# Altium footprint library F407_MB.PcbLib: 57 footprints (part 4 of 4)
Each footprint in its own frame and in the unit in brackets; x right, y up, seen from the top. Pads: shape width x height; smd on the part's side, far side on the other; paste and mask are expansions set on the pad; w line width, h text height; cw(c..) or ccw(c..) is an arc to the next point about the centre after c.
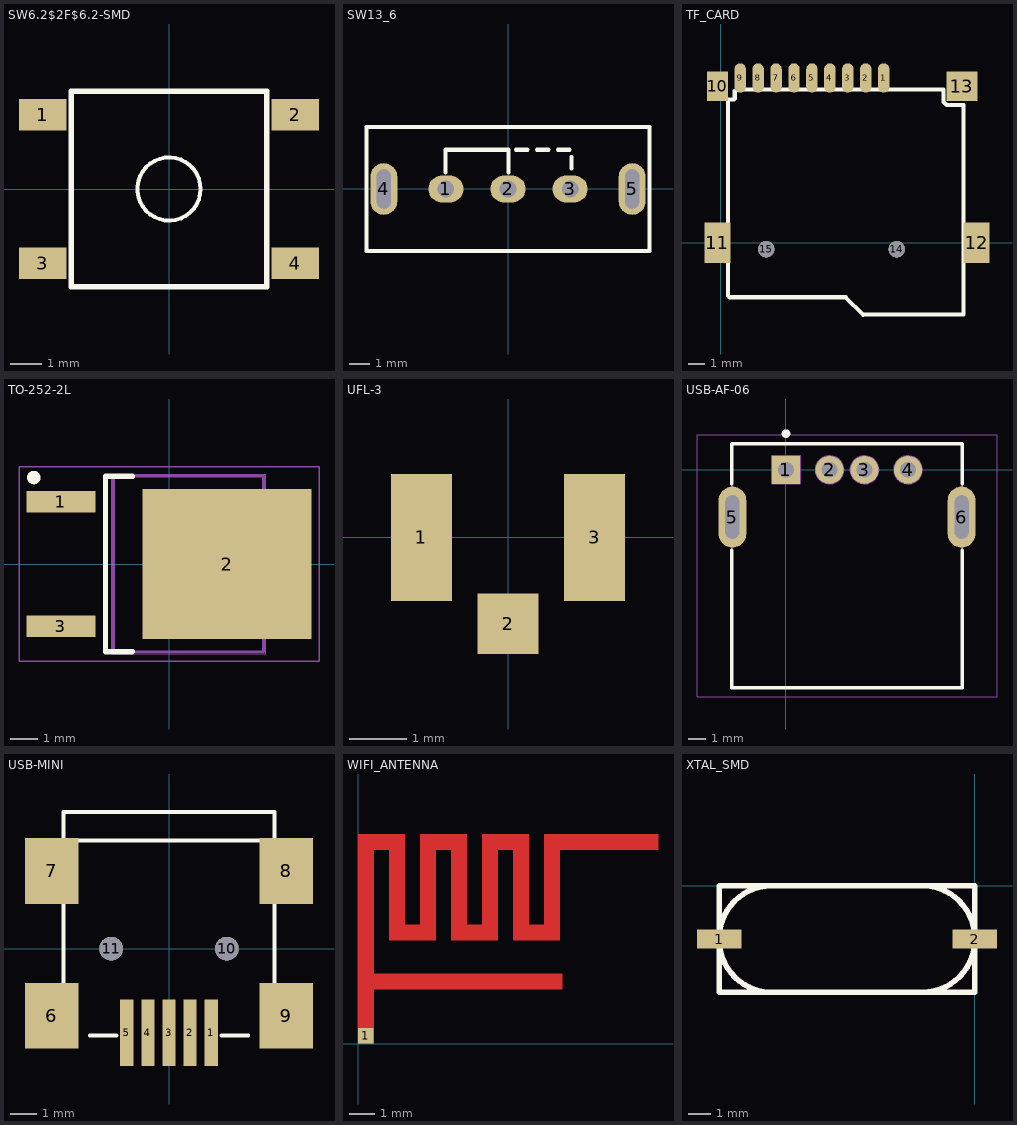
[diagram p3: the footprints below, top view; thin cyan lines are the x and y axes]

## SW6.2$2F$6.2-SMD [mm]
pads (4):
  rect 1.5x1 smd: 1(-4,2.35) 2(4,2.35) 3(-4,-2.35) 4(4,-2.35)
Top Overlay:
  circle w0.127: c0,0 r1
  lines w0.178: -3.1,-3.1 -3.1,3.1 3.1,3.1 3.1,-3.1 -3.1,-3.1

## SW13_6 [mm]
pads (5):
  oval 1.7x1.3 hole 0.8: 1(-3,0) 2(0,0) 3(3,0)
  oval 1.3x2.5 hole 0.686 slot 1.905 at 90 deg: 4(-6,0) 5(6,0)
Top Overlay:
  lines w0.203: -3.023,0.8 -3.023,1.9 0.025,1.9 0.025,0.8 ; 0.381,1.9 0.94,1.9 ; 1.397,1.9 1.956,1.9 ; 2.413,1.9 2.972,1.9 ; 3.073,0.984 3.073,1.543 ; -6.833,-3 6.833,-3 6.833,3 -6.833,3 -6.833,-3

## TF_CARD [mm]
pads (15):
  oval 0.7x1.8 smd: 1(10,10.1) 2(8.9,10.1) 3(7.8,10.1) 4(6.7,10.1) 5(5.6,10.1) 6(4.5,10.1) 7(3.4,10.1) 8(2.3,10.1) 9(1.2,10.1)
  rect 1.3x1.8 smd: 10(-0.2,9.6)
  rect 1.6x2.5 smd: 11(-0.2,0) 12(15.7,0)
  rect 1.9x1.8 smd: 13(14.8,9.6)
  round 1 hole 1: 14(10.8,-0.4) 15(2.8,-0.4)
Top Overlay:
  lines w0.254: 0.406,8.788 0.813,8.788 0.864,8.839 0.864,9.296 0.965,9.398 13.665,9.398 13.665,8.636 13.868,8.433 14.884,8.433 14.884,-4.4 8.738,-4.42 7.671,-3.353 0.559,-3.353 0.457,-3.251 0.457,8.738 0.406,8.788

## TO-252-2L [mm]
pads (3):
  rect 2.55x0.8 smd: 1(-4,2.3) 3(-4,-2.3)
  rect 6.25x5.55 smd: 2(2.15,0)
Top Overlay:
  circle w0.25: c-5,3.2 r0.125
  lines w0.2: -1.35,-3.25 -2.35,-3.25 -2.35,3.25 -1.35,3.25
Top Paste:
  region: -0.25,-2.06 1.79,-2.06 1.79,-0.36 -0.25,-0.36
  region: 2.51,-2.06 4.55,-2.06 4.55,-0.36 2.51,-0.36
  region: -0.25,0.36 1.79,0.36 1.79,2.06 -0.25,2.06
  region: 2.51,0.36 4.55,0.36 4.55,2.06 2.51,2.06
Mechanical 1:
  lines w0.1: 3.5,-2.668 3.946,-2.668 4.85,-1.666 4.85,1.666 3.946,2.668 3.5,2.668 ; -2.05,-3.25 3.5,-3.25 3.5,3.25 -2.05,3.25 -2.05,-3.25
  text "UP1" at -0.852,-0.45 h0.75
Mechanical 16:
  circle w0.05: c0,0 r0.35
  lines w0.001: -2.125,-3.325 3.575,-3.325 3.575,3.325 -2.125,3.325 -2.125,-3.325
  lines w0.05: -0.5,0 0.5,0 ; 0,-0.5 0,0.5 ; -5.55,-3.6 5.55,-3.6 5.55,3.6 -5.55,3.6 -5.55,-3.6

## UFL-3 [mm]
pads (3):
  rect 1.05x2.2 smd: 1(-1.5,0) 3(1.5,0)
  rect 1.05x1.05 smd: 2(0,-1.5)

## USB-AF-06 [mm]
pads (6):
  rect 1.6x1.6 / inner round 1.6 / far side rect 1.6x1.6 hole 0.9: 1(0,0)
  round 1.6 hole 0.9: 2(2.5,0) 3(4.5,0) 4(7,0)
  oval 1.6x3.5 hole 0.8 slot 2.5 at 90 deg: 5(-3.07,-2.71) 6(10.07,-2.71)
Top Overlay:
  circle w0.25: c0,2.075 r0.125
  lines w0.2: -3.1,-4.6 -3.1,-12.5 10.1,-12.5 10.1,-4.6 ; -3.1,-0.8 -3.1,1.5 10.1,1.5 10.1,-0.8
Mechanical 1:
  circle w0.1: c2.5,0 r0.8
  circle w0.1: c4.5,0 r0.8
  circle w0.1: c7,0 r0.8
  lines w0.1: -3.1,-12.5 10.1,-12.5 10.1,1.5 -3.1,1.5 -3.1,-12.5 ; -0.8,-0.8 -0.8,0.8 0.8,0.8 0.8,-0.8 -0.8,-0.8
Mechanical 16:
  circle w0.05: c0,0 r0.35
  lines w0.001: -3.1,-12.5 10.1,-12.5 10.1,1.5 -3.1,1.5 -3.1,-12.5
  lines w0.05: -0.5,0 0.5,0 ; 0,-0.5 0,0.5 ; -5.1,-13 12.1,-13 12.1,2 -5.1,2 -5.1,-13

## USB-MINI [mm]
pads (11):
  rect 0.508x2.54 smd: 1(1.6,-3.2) 2(0.8,-3.2) 3(0,-3.2) 4(-0.8,-3.2) 5(-1.6,-3.2)
  rect 2.032x2.5 smd: 6(-4.45,-2.55) 7(-4.45,2.95) 8(4.45,2.95) 9(4.45,-2.55)
  round 0.9 hole 0.9 unplated: 10(2.2,0) 11(-2.2,0)
Top Overlay:
  lines w0.152: -4,-1.5 -4,1.9 ; -4,4 -4,5.2 4,5.2 4,4 ; -4,4.1 4,4.1 ; -3,-3.3 -2,-3.3 ; 2,-3.3 3,-3.3 ; 4,-1.5 4,1.9

## WIFI_ANTENNA [mm]
pads (1):
  rect 0.6x0.6 smd: 1(0.3,0.3)
Top Layer:
  region: 0,8.1 0,0 0.6,0 0.6,2.1 7.9,2.1 7.9,2.7 0.6,2.7 0.6,7.5 1.2,7.5 1.2,4 3,4 3,7.5 3.6,7.5 3.6,4 5.4,4 5.4,7.5 6,7.5 6,4 7.8,4 7.8,7.5 11.6,7.5 11.6,8.1 7.2,8.1 7.2,4.6 6.6,4.6 6.6,8.1 4.8,8.1 4.8,4.6 4.2,4.6 4.2,8.1 2.4,8.1 2.4,4.6 1.8,4.6 1.8,8.1
Top Solder:
  region: 0,8.1 0,0 0.6,0 0.6,2.1 7.9,2.1 7.9,2.7 0.6,2.7 0.6,7.5 1.2,7.5 1.2,4 3,4 3,7.5 3.6,7.5 3.6,4 5.4,4 5.4,7.5 6,7.5 6,4 7.8,4 7.8,7.5 11.6,7.5 11.6,8.1 7.2,8.1 7.2,4.6 6.6,4.6 6.6,8.1 4.8,8.1 4.8,4.6 4.2,4.6 4.2,8.1 2.4,8.1 2.4,4.6 1.8,4.6 1.8,8.1

## XTAL_SMD [mm]
pads (2):
  rect 2x0.85 smd: 1(-11.5,-2.4) 2(0,-2.4)
Top Overlay:
  lines w0.254: -11.5,-2.469 -11.5,-2.4 ; -11.5,-2.468 ccw(c-9.135,-2.435) -9.102,-4.8 ; -11.5,-2.398 cw(c-9.135,-2.365) -9.168,0 ; -2.398,0 cw(c-2.365,-2.365) 0,-2.332 ; -2.332,-4.8 ccw(c-2.365,-2.435) 0,-2.402 ; 0,-2.4 0,-2.331 ; -11.5,-4.8 -11.5,0 0,0 0,-4.8 -11.5,-4.8